# Altium schematic symbol library Homing_Board.SCHLIB: 8 symbols
Pins are listed as number, name and electrical type; pins without a type are passive.

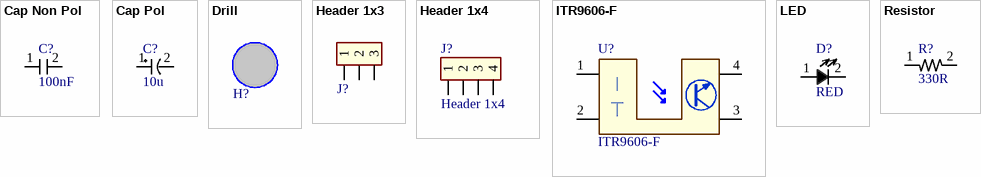
[diagram p0: symbols Cap Non Pol to Resistor]

## Cap Non Pol
designator C?  value 100nF  (hidden comment: Cap Non Pol)
Non Polarised Capacitor; Link: *
footprint C0805 (Chip Capacitor, 2-Leads, Body 2.00x1.25mm, IPC Medium Density)
footprint C1210 (Chip Capacitor, 2-Leads, Body 3.20x2.50mm)
footprint C0603 (Chip Capacitor, 2-Leads, Body 1.60x0.80mm)
footprint CN1
footprint CN1.5
footprint CN2
footprint CN3 (Cap np W 0.3)
pins: 1, 2

## Cap Pol
designator C?  value 10u  (hidden comment: Cap Pol)
Polarised Capacitor; Link: *
footprint Aluminum Size D8 (D) (Aluminum Electrolytic Capacitor, Body 6.60x6.60x7.70mm)
footprint Aluminum Size B (Aluminum Electrolytic Capacitor, Body 4.30x4.30x5.80mm, IPC Medium Density)
footprint Tantalum Size E (Molded Capacitor, 2-Leads, Body 7.30x4.30mm)
footprint Tantalum Size C (Molded Capacitor, 2-Leads, Body 6.00x3.20mm)
footprint Aluminum Size G (Aluminum Electrolytic Capacitor, Body 10.30x10.30x10.20mm, IPC Medium Density)
footprint Aluminum Size A (Aluminum Electrolytic Capacitor, Body 3.30x3.30x5.40mm, IPC Medium Density)
footprint CP1.5/3.4 (Tu hoa 220->470uF,16V, 470uF/16V,25V)
footprint CP1/2 (Tu hoa < 22uF/16>50V)
footprint CP2/4 (Tu hoa 1000uF/16V/25V)
footprint Tantalum Size A
pins: 1, 2

## Drill
designator H?, comment Drill 3mm  (value not drawn)
Hole 3mm
footprint Drill 3MM
pins: 1 hidden

## Header 1x3
designator J?  (value not drawn)
2.54mm Single Male/Female Pin Header; Link: *
footprint Header 1x3 Spec (Pad 0805)
footprint Header 1x3 Oval (2.54mm Single Male Pin Header)
pins: 1, 2, 3

## Header 1x4
designator J?
2.54mm Single Male/Female Pin Header; Link: *
footprint Header 1x4 Oval (2.54mm Single Male Pin Header)
pins: 1, 2, 3, 4

## ITR9606-F
designator U?
Opto Interrupter, Sensing Distance 5mm; Link: *
footprint ITR9606-F (Opto Interrupter, Sensing Distance 5mm)
pins: 1 A, 2 K, 3, 4

## LED
designator D?  value RED  (hidden comment: LED)
Link: *
footprint D0805
footprint LED DIP 5mm
footprint LED DIP 3mm
footprint LED 1W SMD
pins: 1, 2

## Resistor
designator R?  value 330R  (hidden comment: Resistor)
Link: *
footprint R0805
footprint R DIP SPEC (2.54mm)
footprint R0603 (Chip Resistor, 2-Leads, Body 1.60x0.80mm)
footprint R 1/4W DIP 400mil (R 1/4W, 2 Pin, 400mil)
pins: 1, 2